# Altium schematic symbol library PCB_Project2.SCHLIB: 2 symbols
Pins are listed as number, name and electrical type; pins without a type are passive.

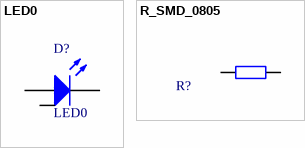
[diagram p0: symbols LED0 to R_SMD_0805]

## LED0
designator D?
Typical INFRARED GaAs LED; Published: 8-Jun-2000; LatestRevisionDate: 08-Jul-2005; LatestRevisionNote: Mech Layer 1 removed.; PackageReference: LED-0; Publisher: Altium Limited
footprint LED-0 (Typical INFRARED GaAs LED; 2 Leads)
simulation model LED0 (Diode)
footprint PCBComponent_1
pins: 0, 1 A, 2 K

## R_SMD_0805
designator R?  (value not drawn)
Резистор; Допуск: +-5%; Корпус: 0805
footprint 0805
pins: 1, 2